# Altium footprint library QUTMS_IntegratedCircuitLibrary.PcbLib: 1 footprints
Each footprint in its own frame and in the unit in brackets; x right, y up, seen from the top. Pads: shape width x height; smd on the part's side, far side on the other; paste and mask are expansions set on the pad; w line width, h text height; cw(c..) or ccw(c..) is an arc to the next point about the centre after c.
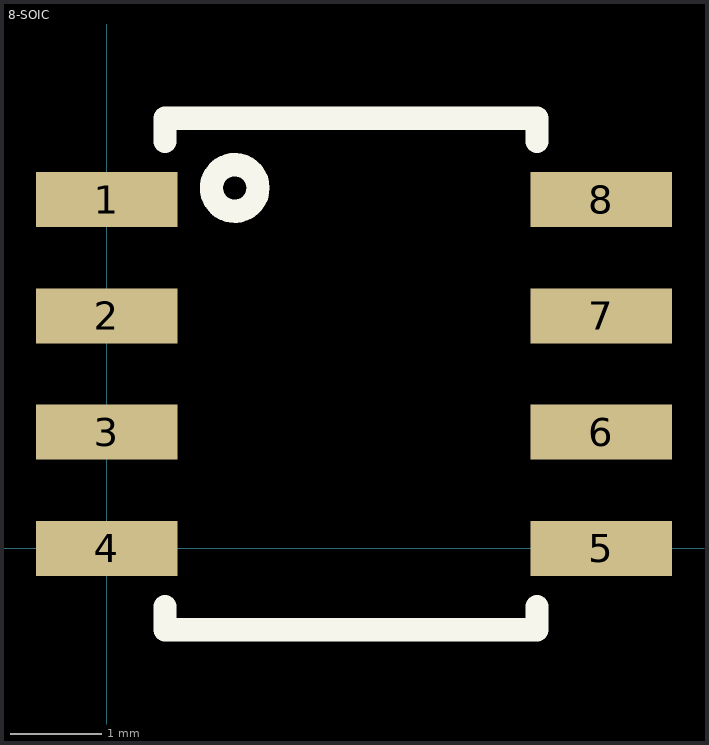
[diagram p0: the footprint, top view; thin cyan lines are the x and y axes]

## 8-SOIC [mm]
pads (8):
  rect 1.55x0.6 smd: 1(0,3.81) 2(0,2.54) 3(0,1.27) 4(0,0) 5(5.4,0) 6(5.4,1.27) 7(5.4,2.54) 8(5.4,3.81)
Top Overlay:
  circle w0.254: c1.397,3.937 r0.254
  lines w0.254: 0.635,-0.635 0.635,-0.889 4.699,-0.889 4.699,-0.635 ; 0.635,4.445 0.635,4.699 4.699,4.699 4.699,4.445
3D body "8SIOC.stp": height 2, standoff 0.05, extent -0.399,-0.597 5.799,4.407